# EAGLE library part LTC6802IG-1PBF (library common)
Multicell Battery Stack Monitor
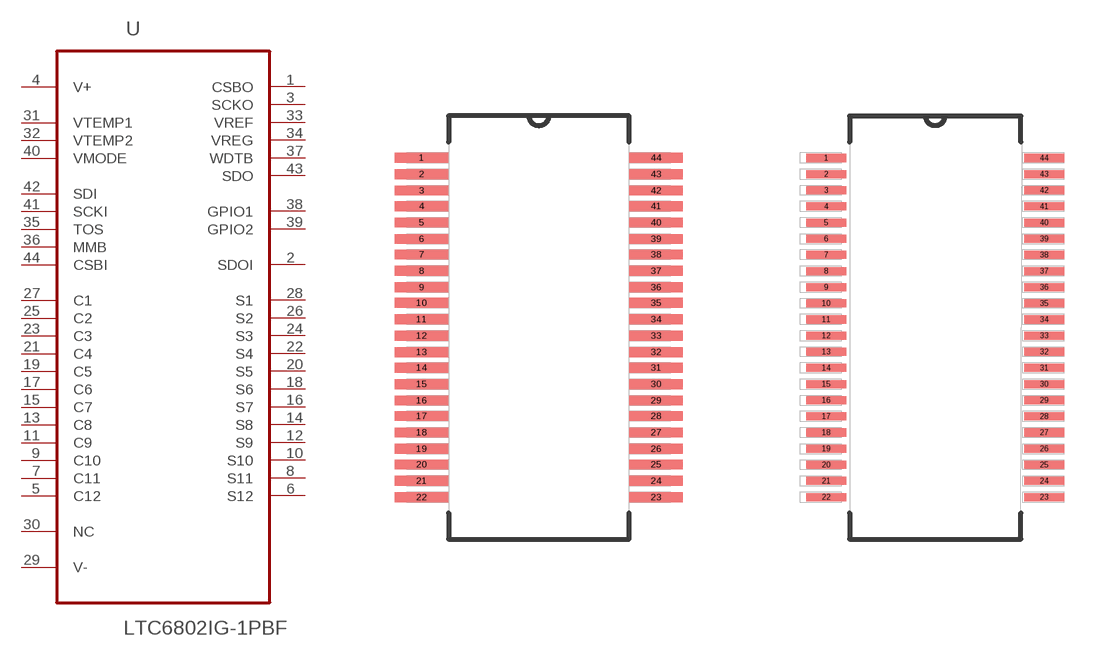
[diagram p2: symbol with the pads of SOP50P780X200-44N; footprints SOP50P780X200-44N, SOP44]

Designator prefix U

## LTC6802IG-1PBF (MPN: LTC6802IG-1#PBF; OC_FARNELL: 1847456; OC_NEWARK: 56P3097; PACKAGE: SSOP-44; SUPPLIER: Linear Technology)  [SOP50P780X200-44N]
1  CSBO  out
2  SDOI
3  SCKO  out
4  V+  pwr
5  C12  in
6  S12  out
7  C11  in
8  S11  out
9  C10  in
10  S10  out
11  C9  in
12  S9  out
13  C8  in
14  S8  out
15  C7  in
16  S7  out
17  C6  in
18  S6  out
19  C5  in
20  S5  out
21  C4  in
22  S4  out
23  C3  in
24  S3  out
25  C2  in
26  S2  out
27  C1  in
28  S1  out
29  V-  pwr
30  NC  nc
31  VTEMP1  in
32  VTEMP2  in
33  VREF  out
34  VREG  out
35  TOS  in
36  MMB  in
37  WDTB  out
38  GPIO1
39  GPIO2
40  VMODE  in
41  SCKI  in
42  SDI  in
43  SDO  out
44  CSBI  in

## LTC6802IG-1PBFX  [SOP44]
1  V+  pwr
2  C12  in
3  S12  out
4  C11  in
5  S11  out
6  C10  in
7  S10  out
8  C9  in
9  S9  out
10  C8  in
11  S8  out
12  C7  in
13  S7  out
14  C6  in
15  S6  out
16  C5  in
17  S5  out
18  C4  in
19  S4  out
20  C3  in
21  S3  out
22  C2  in
23  S2  out
24  C1  in
25  S1  out
26  V-  pwr
28  VTEMP1  in
29  VTEMP2  in
30  VREF  out
31  VREG  out
32  TOS  in
33  MMB  in
34  WDTB  out
35  GPIO1
36  GPIO2
41  SCKI  in
42  SDI  in
43  SDO  out
44  CSBI  in

## Footprint SOP50P780X200-44N (pad centres in mm)
smd 1.651 x 0.305: 1 -3.632,5.258; 2 -3.632,4.75; 3 -3.632,4.242; 4 -3.632,3.759; 5 -3.632,3.251; 6 -3.632,2.743; 7 -3.632,2.261; 8 -3.632,1.753; 9 -3.632,1.245; 10 -3.632,0.762; 11 -3.632,0.254; 12 -3.632,-0.254; 13 -3.632,-0.762; 14 -3.632,-1.245; 15 -3.632,-1.753; 16 -3.632,-2.261; 17 -3.632,-2.743; 18 -3.632,-3.251; 19 -3.632,-3.759; 20 -3.632,-4.242; 21 -3.632,-4.75; 22 -3.632,-5.258; 23 3.632,-5.258; 24 3.632,-4.75; 25 3.632,-4.242; 26 3.632,-3.759; 27 3.632,-3.251; 28 3.632,-2.743; 29 3.632,-2.261; 30 3.632,-1.753; 31 3.632,-1.245; 32 3.632,-0.762; 33 3.632,-0.254; 34 3.632,0.254; 35 3.632,0.762; 36 3.632,1.245; 37 3.632,1.753; 38 3.632,2.261; 39 3.632,2.743; 40 3.632,3.251; 41 3.632,3.759; 42 3.632,4.242; 43 3.632,4.75; 44 3.632,5.258

## Footprint SOP44 (pad centres in mm)
smd 1.25 x 0.25: 1 -3.375,5.5; 2 -3.375,5; 3 -3.375,4.5; 4 -3.375,4; 5 -3.375,3.5; 6 -3.375,3; 7 -3.375,2.5; 8 -3.375,2; 9 -3.375,1.5; 10 -3.375,1; 11 -3.375,0.5; 12 -3.375,0; 13 -3.375,-0.5; 14 -3.375,-1; 15 -3.375,-1.5; 16 -3.375,-2; 17 -3.375,-2.5; 18 -3.375,-3; 19 -3.375,-3.5; 20 -3.375,-4; 21 -3.375,-4.5; 22 -3.375,-5; 23 3.375,-5; 24 3.375,-4.5; 25 3.375,-4; 26 3.375,-3.5; 27 3.375,-3; 28 3.375,-2.5; 29 3.375,-2; 30 3.375,-1.5; 31 3.375,-1; 32 3.375,-0.5; 33 3.375,0; 34 3.375,0.5; 35 3.375,1; 36 3.375,1.5; 37 3.375,2; 38 3.375,2.5; 39 3.375,3; 40 3.375,3.5; 41 3.375,4; 42 3.375,4.5; 43 3.375,5; 44 3.375,5.5